# EAGLE library part _SOCKET_2X8 (library SamacSys_Parts)
IC & Component Sockets 16P TIN PIN TIN CONT Source: Datasheet <https://componentsearchengine.com/Datasheets/2/110-99-316-41-001000.pdf>
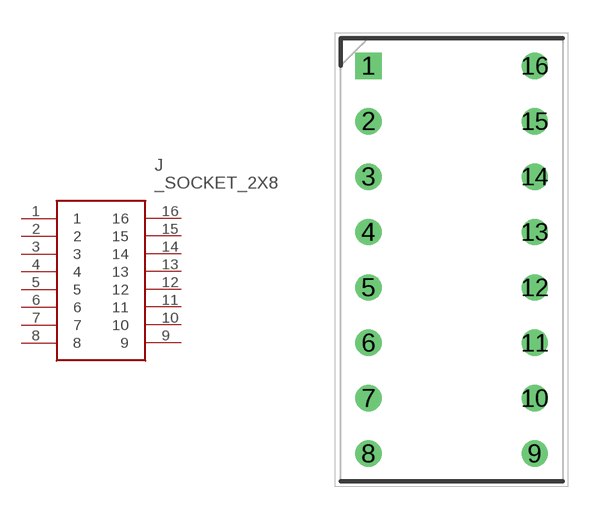
[diagram p26: symbol with the pads of DIPS762W51P254L2032H419Q16N; footprint DIPS762W51P254L2032H419Q16N]

Designator prefix J

## _SOCKET_2X8 (DESCRIPTION: IC & Component Sockets 16P TIN PIN TIN CONT; HEIGHT: 4.191mm; MANUFACTURER_NAME: Mill-Max; MANUFACTURER_PART_NUMBER: 110-99-316-41-001000)  [DIPS762W51P254L2032H419Q16N]
1  1
2  2
3  3
4  4
5  5
6  6
7  7
8  8
9  9
10  10
11  11
12  12
13  13
14  14
15  15
16  16

## Footprint DIPS762W51P254L2032H419Q16N (pad centres in mm)
110-99-316-41-001000
drill 0.7 pad 1.1 square: 1 0,0
drill 0.7 pad 1.1: 2 0,-2.54; 3 0,-5.08; 4 0,-7.62; 5 0,-10.16; 6 0,-12.7; 7 0,-15.24; 8 0,-17.78; 9 7.62,-17.78; 10 7.62,-15.24; 11 7.62,-12.7; 12 7.62,-10.16; 13 7.62,-7.62; 14 7.62,-5.08; 15 7.62,-2.54; 16 7.62,0